# Altium footprint library QUAN.PcbLib: 216 footprints (part 3 of 14)
Each footprint in its own frame and in the unit in brackets; x right, y up, seen from the top. Pads: shape width x height; smd on the part's side, far side on the other; paste and mask are expansions set on the pad; w line width, h text height; cw(c..) or ccw(c..) is an arc to the next point about the centre after c.
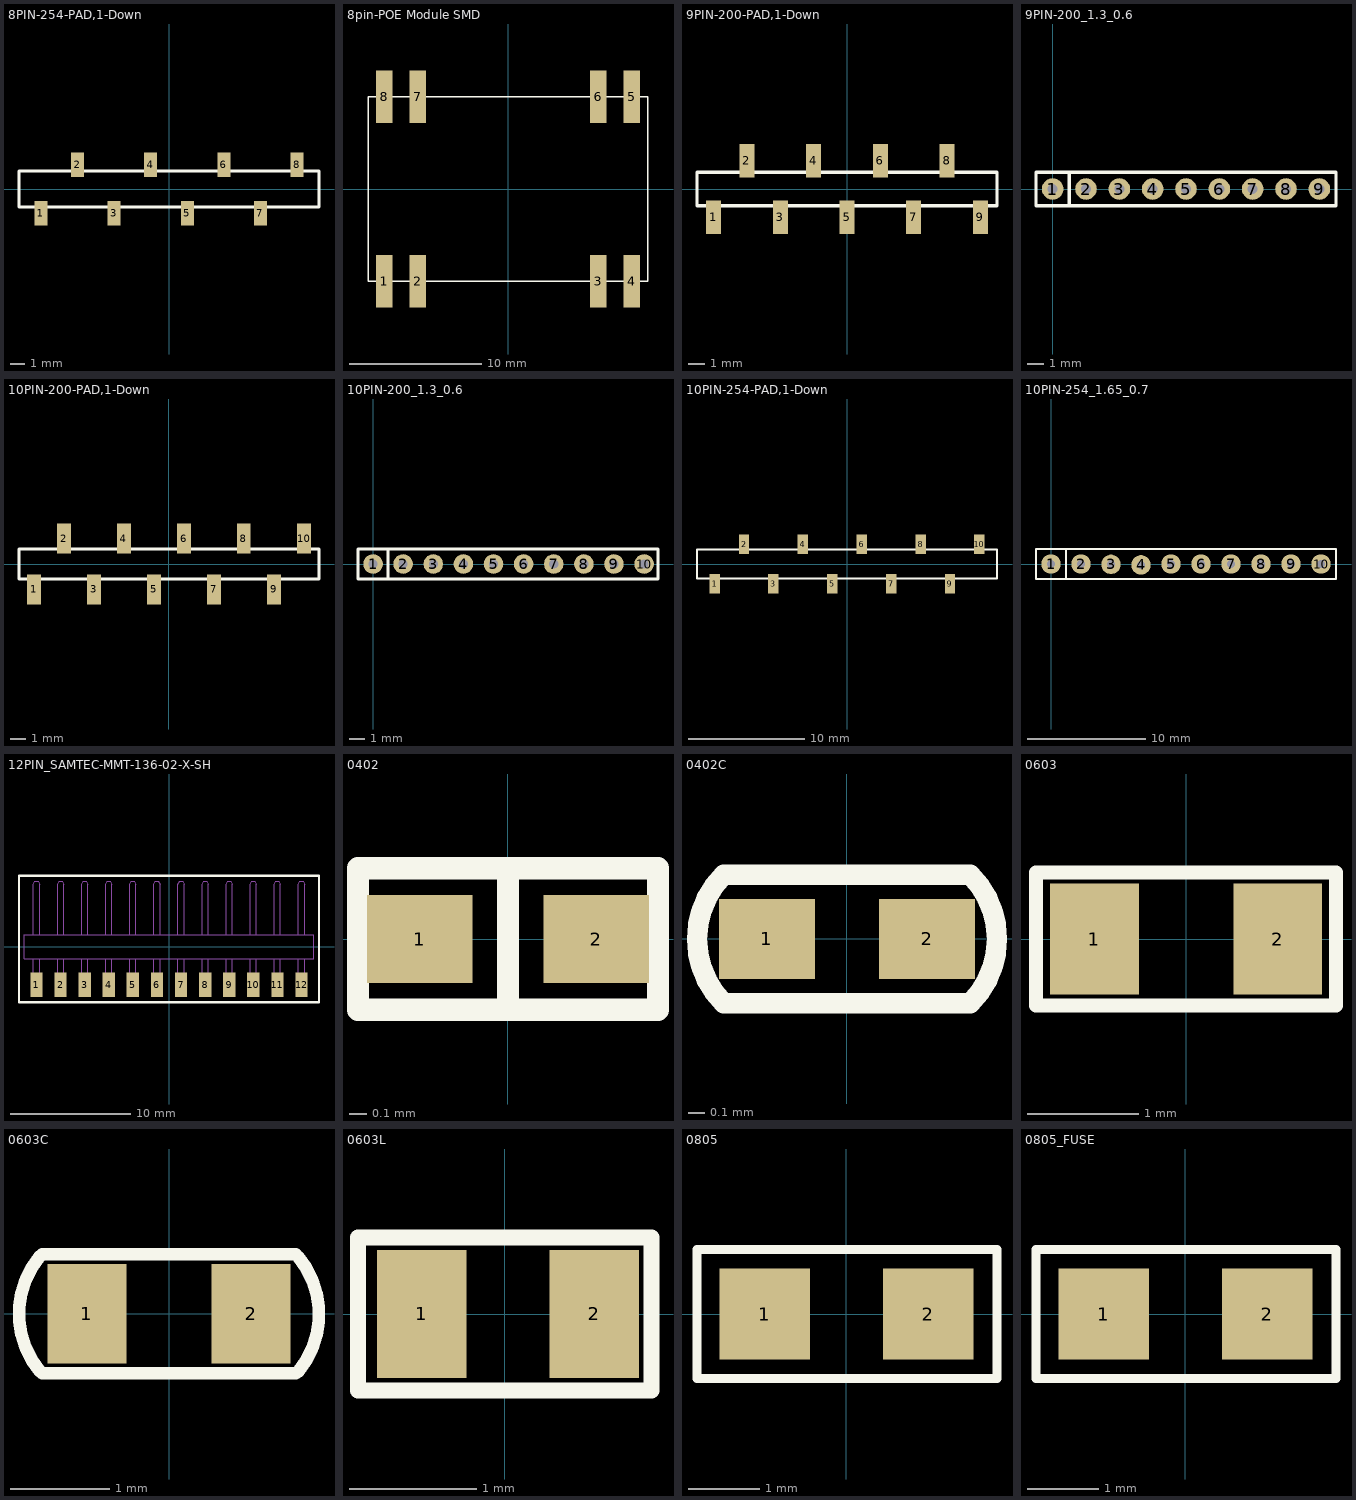
[diagram p2: the footprints below, top view; thin cyan lines are the x and y axes]

## 8PIN-254-PAD,1-Down [mm] "8PIN-254-PAD,1-Down"
pads (8):
  rect 0.9x1.7 smd: 1(-8.89,-1.7) 2(-6.35,1.7) 3(-3.81,-1.7) 4(-1.27,1.7) 5(1.27,-1.7) 6(3.81,1.7) 7(6.35,-1.7) 8(8.89,1.7)
Top Overlay:
  lines w0.2: -10.41,-1.25 10.41,-1.25 10.41,1.25 -10.41,1.25 -10.41,-1.25

## 8pin-POE Module SMD [mm] "8pin-POE Module SMD"
pads (8):
  rect 1.25x4 smd: 1(-9.375,-7) 2(-6.835,-7) 3(6.835,-7) 4(9.375,-7) 5(9.375,7) 6(6.835,7) 7(-6.835,7) 8(-9.375,7)
Top Overlay:
  lines w0.127: -10.6,-7 -10.6,7 10.6,7 10.6,-7 -10.6,-7

## 9PIN-200-PAD,1-Down [mm] "9PIN-200-PAD,1-Down"
pads (9):
  rect 0.9x2 smd: 1(-8,-1.7) 2(-6,1.7) 3(-4,-1.7) 4(-2,1.7) 5(0,-1.7) 6(2,1.7) 7(4,-1.7) 8(6,1.7) 9(8,-1.7)
Top Overlay:
  lines w0.2: -9,-1 9,-1 9,1 -9,1 -9,-1

## 9PIN-200_1.3_0.6 [mm]
pads (9):
  round 1.3 hole 0.6: 1(0,0) 2(2,0) 3(4,0) 4(6,0) 5(8,0) 6(10,0) 7(12,0) 8(14,0) 9(16,0)
Top Overlay:
  lines w0.2: 1,-1 1,0.975 ; -1,-1 -1,1 17,1 17,-1 -1,-1
3D body "User Library-2-pinasm_asm.STEP": height 5.95, standoff -2.75, extent 12.99,-1.07 16.99,0.93
3D body "User Library-2-pinasm_asm.STEP": height 5.95, standoff -2.75, extent 10.99,-1.07 14.99,0.93
3D body "User Library-2-pinasm_asm.STEP": height 5.95, standoff -2.75, extent 6.99,-1.07 10.99,0.93
3D body "User Library-2-pinasm_asm.STEP": height 5.95, standoff -2.75, extent -1.01,-1.07 2.99,0.93
3D body "User Library-2-pinasm_asm.STEP": height 5.95, standoff -2.75, extent 2.99,-1.07 6.99,0.93

## 10PIN-200-PAD,1-Down [mm] "10PIN-200-PAD,1-Down"
pads (10):
  rect 0.9x2 smd: 1(-9,-1.7) 2(-7,1.7) 3(-5,-1.7) 4(-3,1.7) 5(-1,-1.7) 6(1,1.7) 7(3,-1.7) 8(4.975,1.7) 9(7,-1.7) 10(9,1.7)
Top Overlay:
  lines w0.2: -10,-1 -10,1 10,1 10,-1 -10,-1

## 10PIN-200_1.3_0.6 [mm]
pads (10):
  round 1.3 hole 0.6: 1(0,0) 2(2,0) 3(4,0) 4(6,0) 5(8,0) 6(10,0) 7(12,0) 8(14,0) 9(16,0) 10(18,0)
Top Overlay:
  lines w0.2: 1,-1 1,0.975 ; -1,-1 -1,1 18.925,1 18.925,-1 -1,-1
3D body "User Library-2-pinasm_asm.STEP": height 5.95, standoff -2.75, extent 14.99,-1.07 18.99,0.93
3D body "User Library-2-pinasm_asm.STEP": height 5.95, standoff -2.75, extent 6.99,-1.07 10.99,0.93
3D body "User Library-2-pinasm_asm.STEP": height 5.95, standoff -2.75, extent 10.99,-1.07 14.99,0.93
3D body "User Library-2-pinasm_asm.STEP": height 5.95, standoff -2.75, extent -1.01,-1.07 2.99,0.93
3D body "User Library-2-pinasm_asm.STEP": height 5.95, standoff -2.75, extent 2.99,-1.07 6.99,0.93

## 10PIN-254-PAD,1-Down [mm] "10PIN-254-PAD,1-Down"
pads (10):
  rect 0.9x1.7 smd: 1(-11.43,-1.7) 2(-8.89,1.7) 3(-6.35,-1.7) 4(-3.81,1.7) 5(-1.27,-1.7) 6(1.27,1.7) 7(3.81,-1.7) 8(6.35,1.7) 9(8.89,-1.7) 10(11.43,1.7)
Top Overlay:
  lines w0.2: 12.95,-1.25 12.95,1.25 ; 12.95,-1.25 -12.95,-1.25 -12.95,1.25 12.95,1.25 ; 12.95,-1.25 12.95,1.25

## 10PIN-254_1.65_0.7 [mm]
pads (10):
  round 1.65 hole 0.7: 1(0,0) 2(2.54,0) 3(5.08,-0.025) 4(7.62,-0.075) 5(10.16,0) 6(12.7,0) 7(15.24,0) 8(17.78,0) 9(20.32,0) 10(22.86,0)
Top Overlay:
  lines w0.2: 1.27,-1.27 1.27,1.27 ; 24.13,1.23 24.13,-1.27 -1.27,-1.27 -1.27,1.27 24.13,1.27
3D body "User Library-Header Vertical 2_54mm Pitch2-1.STEP": height 5.94, standoff -2.94, extent 19.05,-1.25 24.13,1.29
3D body "User Library-Header Vertical 2_54mm Pitch2-1.STEP": height 5.94, standoff -2.94, extent 13.97,-1.25 19.05,1.29
3D body "User Library-Header Vertical 2_54mm Pitch2-1.STEP": height 5.94, standoff -2.94, extent 8.89,-1.25 13.97,1.29
3D body "User Library-Header Vertical 2_54mm Pitch2-1.STEP": height 5.94, standoff -2.94, extent 3.81,-1.25 8.89,1.29
3D body "User Library-Header Vertical 2_54mm Pitch2-1.STEP": height 5.94, standoff -2.94, extent -1.27,-1.25 3.81,1.29

## 12PIN_SAMTEC-MMT-136-02-X-SH [mm]
pads (12):
  rect 1.02x2.03 smd: 1(-11,-3.159) 2(-9,-3.159) 3(-7,-3.159) 4(-5,-3.159) 5(-3,-3.159) 6(-1,-3.159) 7(1,-3.159) 8(3,-3.159) 9(5,-3.159) 10(7,-3.159) 11(9,-3.159) 12(11,-3.159)
Top Overlay:
  lines w0.2: -12.45,-4.625 12.45,-4.625 12.45,5.895 -12.45,5.895 -12.45,-4.625
Top Paste:
  rectangle: 10.49,-4.174 11.51,-2.144
  rectangle: 8.49,-4.174 9.51,-2.144
  rectangle: 6.49,-4.174 7.511,-2.144
  rectangle: 4.49,-4.174 5.511,-2.144
  rectangle: 2.49,-4.174 3.511,-2.144
  rectangle: 0.49,-4.174 1.511,-2.144
  rectangle: -1.51,-4.174 -0.489,-2.144
  rectangle: -3.51,-4.174 -2.489,-2.144
  rectangle: -5.51,-4.174 -4.489,-2.144
  rectangle: -7.51,-4.174 -6.489,-2.144
  rectangle: -9.51,-4.174 -8.49,-2.144
  rectangle: -11.51,-4.174 -10.49,-2.144
Top Solder:
  rectangle: 10.439,-4.225 11.561,-2.093
  rectangle: 8.439,-4.225 9.561,-2.093
  rectangle: 6.439,-4.225 7.561,-2.093
  rectangle: 4.439,-4.225 5.561,-2.093
  rectangle: 2.439,-4.225 3.561,-2.093
  rectangle: 0.439,-4.225 1.561,-2.093
  rectangle: -1.561,-4.225 -0.439,-2.093
  rectangle: -3.561,-4.225 -2.439,-2.093
  rectangle: -5.561,-4.225 -4.439,-2.093
  rectangle: -7.561,-4.225 -6.439,-2.093
  rectangle: -9.561,-4.225 -8.439,-2.093
  rectangle: -11.561,-4.225 -10.439,-2.093
Mechanical 16:
  lines w0.1: -11.254,-1 -11.254,-3.794 -10.746,-3.794 -10.746,-1 ; -11.254,1 -11.254,5.191 -11.127,5.445 -10.873,5.445 -10.746,5.191 -10.746,1 ; -9.254,-1 -9.254,-3.794 -8.746,-3.794 -8.746,-1 ; -9.254,1 -9.254,5.191 -9.127,5.445 -8.873,5.445 -8.746,5.191 -8.746,1 ; -7.254,-1 -7.254,-3.794 -6.746,-3.794 -6.746,-1 ; -7.254,1 -7.254,5.191 -7.127,5.445 -6.873,5.445 -6.746,5.191 -6.746,1 ; -5.254,-1 -5.254,-3.794 -4.746,-3.794 -4.746,-1 ; -5.254,1 -5.254,5.191 -5.127,5.445 -4.873,5.445 -4.746,5.191 -4.746,1 ; -3.254,-1 -3.254,-3.794 -2.746,-3.794 -2.746,-1 ; -3.254,1 -3.254,5.191 -3.127,5.445 -2.873,5.445 -2.746,5.191 -2.746,1 ; -1.254,-1 -1.254,-3.794 -0.746,-3.794 -0.746,-1 ; -1.254,1 -1.254,5.191 -1.127,5.445 -0.873,5.445 -0.746,5.191 -0.746,1 ; 0.746,-1 0.746,-3.794 1.254,-3.794 1.254,-1 ; 0.746,1 0.746,5.191 0.873,5.445 1.127,5.445 1.254,5.191 1.254,1 ; 2.746,-1 2.746,-3.794 3.254,-3.794 3.254,-1 ; 2.746,1 2.746,5.191 2.873,5.445 3.127,5.445 3.254,5.191 3.254,1 ; 4.746,-1 4.746,-3.794 5.254,-3.794 5.254,-1 ; 4.746,1 4.746,5.191 4.873,5.445 5.127,5.445 5.254,5.191 5.254,1 ; 6.746,-1 6.746,-3.794 7.254,-3.794 7.254,-1 ; 6.746,1 6.746,5.191 6.873,5.445 7.127,5.445 7.254,5.191 7.254,1 ; 8.746,-1 8.746,-3.794 9.254,-3.794 9.254,-1 ; 8.746,1 8.746,5.191 8.873,5.445 9.127,5.445 9.254,5.191 9.254,1 ; 10.746,-1 10.746,-3.794 11.254,-3.794 11.254,-1 ; 10.746,1 10.746,5.191 10.873,5.445 11.127,5.445 11.254,5.191 11.254,1 ; 10,-1 12,-1 ; 10,-1 12,-1 ; 10,-1 8,-1 6,-1 4,-1 2,-1 0,-1 -2,-1 -4,-1 -6,-1 -8,-1 -10,-1 -12,-1 -12,1 -10,1 -8,1 -6,1 -4,1 -2,1 0,1 2,1 4,1 6,1 8,1 10,1 ; 10,1 12,1 ; 10,1 12,1 ; 12,-1 12,1
  text "1" at -6.49,-7.862 h0.6
3D body "pin_header_a-sl200-ea-g02mp1.stp": height 2, standoff 0, extent 7.999,-4.019 11.999,4.781
3D body "pin_header_a-sl200-ea-g02mp1.stp": height 2, standoff 0, extent 3.999,-4.019 7.999,4.781
3D body "pin_header_a-sl200-ea-g02mp1.stp": height 2, standoff 0, extent -0.001,-4.019 3.999,4.781
3D body "pin_header_a-sl200-ea-g02mp1.stp": height 2, standoff 0, extent -4.001,-4.019 -0.001,4.781
3D body "pin_header_a-sl200-ea-g02mp1.stp": height 2, standoff 0, extent -8.001,-4.019 -4.001,4.781
3D body "pin_header_a-sl200-ea-g02mp1.stp": height 2, standoff 0, extent -12.001,-4.019 -8.001,4.781

## 0402 [mm]
pads (2):
  rect 0.6x0.5 smd: 1(-0.5,0) 2(0.5,0)
Top Overlay:
  lines w0.127: 0,-0.4 0,0.4 ; -0.85,-0.4 -0.85,0.4 0.85,0.4 0.85,-0.4 -0.85,-0.4
3D body "User Library-d0402h025.STEP": height 0.25, standoff 0, extent -0.5,-0.25 0.5,0.25

## 0402C [mm]
pads (2):
  rect 0.6x0.5 smd: 1(-0.5,0) 2(0.5,0)
Top Overlay:
  lines w0.127: -0.77,-0.4 cw(c-0.37,0) -0.77,0.4 0.77,0.4 cw(c0.37,0) 0.77,-0.4 -0.77,-0.4
3D body "c0402c689c5gactu.stp": height 0.58, standoff 0.03, extent -0.525,-0.275 0.525,0.275

## 0603 [mm]
pads (2):
  rect 0.8x1 smd: 1(-0.826,0) 2(0.826,0)
Top Overlay:
  lines w0.127: -1.351,-0.6 1.349,-0.6 1.349,0.6 -1.351,0.6 -1.351,-0.6
3D body "79750.stp": height 0.45, standoff 0, extent -0.8,-0.4 0.8,0.4

## 0603C [mm]
pads (2):
  rect 0.8x1 smd: 1(-0.826,0) 2(0.826,0)
Top Overlay:
  lines w0.127: -1.299,-0.579 cw(c-0.61,0) -1.299,0.579 ; -1.275,0.6 1.274,0.6 ; -1.273,-0.599 1.276,-0.599 ; 1.299,-0.582 ccw(c0.61,-0.004) 1.299,0.575
3D body "cbr06c470jagac.stp": height 0.9, standoff 0, extent -0.85,-0.435 0.85,0.435

## 0603L [mm] "0603L"
pads (2):
  rect 0.7x1 smd: 1(-0.65,0) 2(0.7,0)
Top Overlay:
  lines w0.127: -1.15,-0.6 1.15,-0.6 1.15,0.6 -1.15,0.6 -1.15,-0.6

## 0805 [mil]
pads (2):
  rect 50x50 smd: 1(-45,0) 2(45,0)
Top Overlay:
  lines w5: -82.4,-35.43 -82.4,35.43 82.95,35.43 82.95,-35.43 -82.4,-35.43

## 0805_FUSE [mil]
pads (2):
  rect 50x50 smd: 1(-45,0) 2(45,0)
Top Overlay:
  lines w5: -82.4,-35.43 82.95,-35.43 82.95,35.43 -82.4,35.43 -82.4,-35.43
3D body "mf-psmf050x-2.stp": height 26.18, standoff 0, extent -42.05,-26.58 42.6,26.58